# EAGLE library part MAX6369 (library OSSI)
MAX6369 Pin-Selectable Watchdog Timers Max 6369 is Open-drain output 1 ms to 60 s seletable timeout
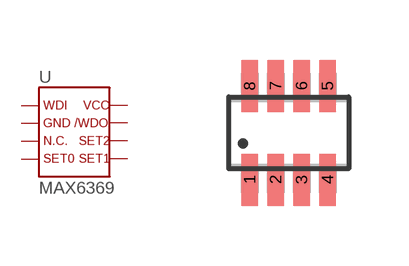
[diagram p16: symbol with the pads of SOT23-8; footprint SOT23-8]

Designator prefix U

## MAX6369  [SOT23-8]
1  P$1  in
2  P$2  pwr
3  P$3  nc
4  P$4  pas
5  P$5  pas
6  P$6  pas
7  P$7  out
8  P$8  pwr

## Footprint SOT23-8 (pad centres in mm)
SOT23-8 Source: http://pdfserv.maxim-ic.com/land_patterns/90-0176.PDF
smd 0.42 x 1.3: 1 -0.975,-1.175; 2 -0.325,-1.175; 3 0.325,-1.175; 4 0.975,-1.175; 5 0.975,1.175; 6 0.325,1.175; 7 -0.325,1.175; 8 -0.975,1.175